# Altium schematic symbol library 0901301214.SchLib: 1 symbol
Pins are listed as number, name and electrical type; pins without a type are passive.

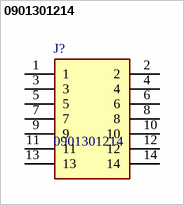
[diagram p0: symbol 0901301214]

## 0901301214
designator J?
Headers & Wire Housings C-GRID III 2.54MM VT SHRD 2X07; Manufacturer_Name: Molex; Geometry.Height: 11.1mm; TTI Part Number: *; TTI Price/Stock: *; Manufacturer_Part_Number: 0901301214; Datasheet Link: https://www.molex.com/pdm_docs/sd/901301214_sd.pdf
footprint SHDR14W65P254_2X7_2012X975X1110P
pins: 1, 2, 3, 4, 5, 6, 7, 8, 9, 10, 11, 12, 13, 14